# EAGLE library part PGA2320 (library ic-TI)
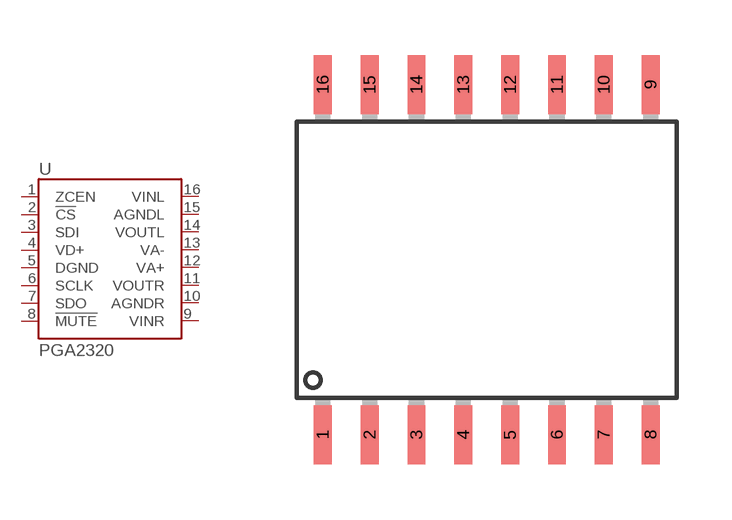
[diagram p21: symbol with the pads of SOP16; footprint SOP16]

Designator prefix U

## PGA2320  [SOP16]
1  ZCEN
2  !CS
3  SDI
4  VD+
5  DGND
6  SCLK
7  SDO
8  !MUTE
9  VINR
10  AGNDR
11  VOUTR
12  VA+
13  VA-
14  VOUTL
15  AGNDL
16  VINL

## Footprint SOP16 (pad centres in mm)
smd 0.48 x 1.6: 1 -4.445,-4.75; 2 -3.175,-4.75; 3 -1.905,-4.75; 4 -0.635,-4.75; 5 0.635,-4.75; 6 1.905,-4.75; 7 3.175,-4.75; 8 4.445,-4.75; 9 4.445,4.75; 10 3.175,4.75; 11 1.905,4.75; 12 0.635,4.75; 13 -0.635,4.75; 14 -1.905,4.75; 15 -3.175,4.75; 16 -4.445,4.75